# EAGLE library part MIC2009A-1 (library parts)
Adjustable Current Limiting Power Distribution Switch Current limit 0.1A-0.9A, Enable signal active high
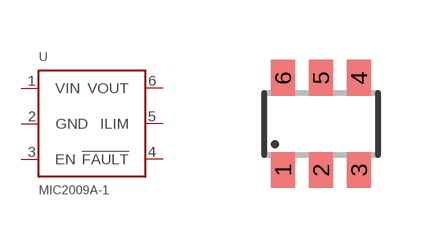
[diagram p12: symbol with the pads of SOT23-6; footprint SOT23-6]

Designator prefix U

## MIC2009A-1YM6 (RS: 727-4832)  [SOT23-6]
1  VIN  pwr
2  GND  pwr
3  EN  in
4  !FAULT  out
5  ILIM  pas
6  VOUT  pwr

## Footprint SOT23-6 (pad centres in mm)
Small Outline Transistor 6 lead
smd 0.6 x 0.9: 1 -0.95,-1.15; 2 0,-1.15; 3 0.95,-1.15; 4 0.95,1.15; 5 0,1.15; 6 -0.95,1.15